# EAGLE library part RJHSE-5380-02 (library ELE3000)
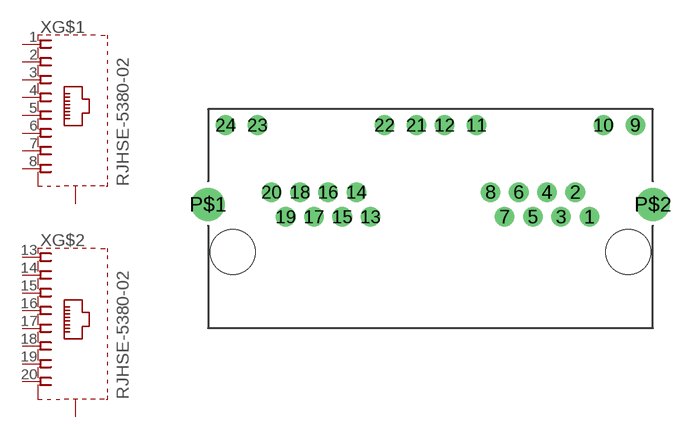
[diagram p9: symbol with the pads of RJHSE-5380-02; footprint RJHSE-5380-02]

Designator prefix X; gates G$1=JACK8SHILED4 G$2=JACK8SHILED4

## RJHSE-5380-02  [RJHSE-5380-02]
1  G$1:1  pas
2  G$1:2  pas
3  G$1:3  pas
4  G$1:4  pas
5  G$1:5  pas
6  G$1:6  pas
7  G$1:7  pas
8  G$1:8  pas
13  G$2:1  pas
14  G$2:2  pas
15  G$2:3  pas
16  G$2:4  pas
17  G$2:5  pas
18  G$2:6  pas
19  G$2:7  pas
20  G$2:8  pas
P$1  G$2:S  pas
P$2  G$1:S  pas

## Footprint RJHSE-5380-02 (pad centres in mm)
drill 0.9: 1 11.684,0; 2 10.668,1.778; 3 9.652,0; 4 8.636,1.778; 5 7.62,0; 6 6.604,1.778; 7 5.588,0; 8 4.572,1.778; 9 14.986,6.604; 10 12.7,6.604; 11 3.556,6.604; 12 1.27,6.604; 13 -4.064,0; 14 -5.08,1.778; 15 -6.096,0; 16 -7.112,1.778; 17 -8.128,0; 18 -9.144,1.778; 19 -10.16,0; 20 -11.176,1.778; 21 -0.762,6.604; 22 -3.048,6.604; 23 -12.192,6.604; 24 -14.478,6.604
drill 1.6: P$1 -15.748,0.889; P$2 16.256,0.889
hole 3.251 at -13.97,-2.54
hole 3.251 at 14.478,-2.54